# EAGLE library part XCV2000E_PQ208 (library xilinx-xcv)
xcv2000e_pq208 edit this description Auto generated by make-symbol-device-package-bsdl.ulp Rev. 26 Source: xcv2000e_pq208.bsd
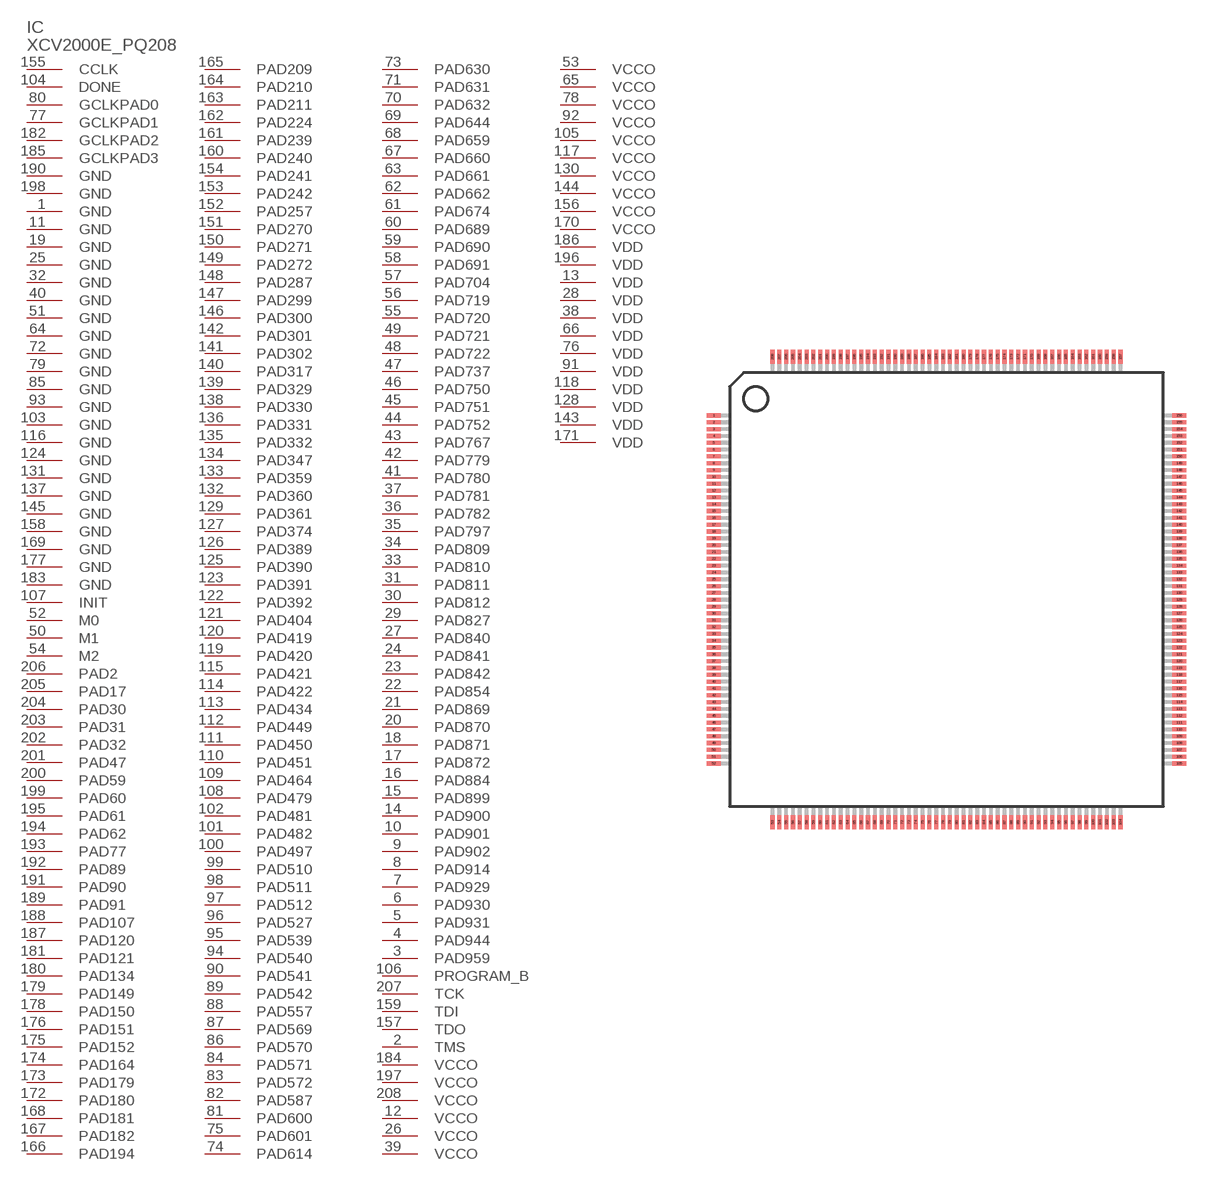
[diagram p53: symbol with the pads of PQ208; footprint PQ208]

Designator prefix IC

## XCV2000E_PQ208  [PQ208]
1  GND  pwr
2  TMS  in
3  PAD959
4  PAD944
5  PAD931
6  PAD930
7  PAD929
8  PAD914
9  PAD902
10  PAD901
11  GND  pwr
12  VCCO  pwr
13  VDD  pwr
14  PAD900
15  PAD899
16  PAD884
17  PAD872
18  PAD871
19  GND  pwr
20  PAD870
21  PAD869
22  PAD854
23  PAD842
24  PAD841
25  GND  pwr
26  VCCO  pwr
27  PAD840
28  VDD  pwr
29  PAD827
30  PAD812
31  PAD811
32  GND  pwr
33  PAD810
34  PAD809
35  PAD797
36  PAD782
37  PAD781
38  VDD  pwr
39  VCCO  pwr
40  GND  pwr
41  PAD780
42  PAD779
43  PAD767
44  PAD752
45  PAD751
46  PAD750
47  PAD737
48  PAD722
49  PAD721
50  M1  in
51  GND  pwr
52  M0  in
53  VCCO  pwr
54  M2  in
55  PAD720
56  PAD719
57  PAD704
58  PAD691
59  PAD690
60  PAD689
61  PAD674
62  PAD662
63  PAD661
64  GND  pwr
65  VCCO  pwr
66  VDD  pwr
67  PAD660
68  PAD659
69  PAD644
70  PAD632
71  PAD631
72  GND  pwr
73  PAD630
74  PAD614
75  PAD601
76  VDD  pwr
77  GCLKPAD1  in
78  VCCO  pwr
79  GND  pwr
80  GCLKPAD0  in
81  PAD600
82  PAD587
83  PAD572
84  PAD571
85  GND  pwr
86  PAD570
87  PAD569
88  PAD557
89  PAD542
90  PAD541
91  VDD  pwr
92  VCCO  pwr
93  GND  pwr
94  PAD540
95  PAD539
96  PAD527
97  PAD512
98  PAD511
99  PAD510
100  PAD497
101  PAD482
102  PAD481
103  GND  pwr
104  DONE
105  VCCO  pwr
106  PROGRAM_B  in
107  INIT
108  PAD479
109  PAD464
110  PAD451
111  PAD450
112  PAD449
113  PAD434
114  PAD422
115  PAD421
116  GND  pwr
117  VCCO  pwr
118  VDD  pwr
119  PAD420
120  PAD419
121  PAD404
122  PAD392
123  PAD391
124  GND  pwr
125  PAD390
126  PAD389
127  PAD374
128  VDD  pwr
129  PAD361
130  VCCO  pwr
131  GND  pwr
132  PAD360
133  PAD359
134  PAD347
135  PAD332
136  PAD331
137  GND  pwr
138  PAD330
139  PAD329
140  PAD317
141  PAD302
142  PAD301
143  VDD  pwr
144  VCCO  pwr
145  GND  pwr
146  PAD300
147  PAD299
148  PAD287
149  PAD272
150  PAD271
151  PAD270
152  PAD257
153  PAD242
154  PAD241
155  CCLK
156  VCCO  pwr
157  TDO  out
158  GND  pwr
159  TDI  in
160  PAD240
161  PAD239
162  PAD224
163  PAD211
164  PAD210
165  PAD209
166  PAD194
167  PAD182
168  PAD181
169  GND  pwr
170  VCCO  pwr
171  VDD  pwr
172  PAD180
173  PAD179
174  PAD164
175  PAD152
176  PAD151
177  GND  pwr
178  PAD150
179  PAD149
180  PAD134
181  PAD121
182  GCLKPAD2  in
183  GND  pwr
184  VCCO  pwr
185  GCLKPAD3  in
186  VDD  pwr
187  PAD120
188  PAD107
189  PAD91
190  GND  pwr
191  PAD90
192  PAD89
193  PAD77
194  PAD62
195  PAD61
196  VDD  pwr
197  VCCO  pwr
198  GND  pwr
199  PAD60
200  PAD59
201  PAD47
202  PAD32
203  PAD31
204  PAD30
205  PAD17
206  PAD2
207  TCK  in
208  VCCO  pwr

## Footprint PQ208 (pad centres in mm)
PQ208 Auto generated by make-symbol-device-package-bsdl.ulp Rev. 26
smd 1 x 0.3: 1 -17.05,12.75; 2 -17.05,12.25; 3 -17.05,11.75; 4 -17.05,11.25; 5 -17.05,10.75; 6 -17.05,10.25; 7 -17.05,9.75; 8 -17.05,9.25; 9 -17.05,8.75; 10 -17.05,8.25; 11 -17.05,7.75; 12 -17.05,7.25; 13 -17.05,6.75; 14 -17.05,6.25; 15 -17.05,5.75; 16 -17.05,5.25; 17 -17.05,4.75; 18 -17.05,4.25; 19 -17.05,3.75; 20 -17.05,3.25; 21 -17.05,2.75; 22 -17.05,2.25; 23 -17.05,1.75; 24 -17.05,1.25; 25 -17.05,0.75; 26 -17.05,0.25; 27 -17.05,-0.25; 28 -17.05,-0.75; 29 -17.05,-1.25; 30 -17.05,-1.75; 31 -17.05,-2.25; 32 -17.05,-2.75; 33 -17.05,-3.25; 34 -17.05,-3.75; 35 -17.05,-4.25; 36 -17.05,-4.75; 37 -17.05,-5.25; 38 -17.05,-5.75; 39 -17.05,-6.25; 40 -17.05,-6.75; 41 -17.05,-7.25; 42 -17.05,-7.75; 43 -17.05,-8.25; 44 -17.05,-8.75; 45 -17.05,-9.25; 46 -17.05,-9.75; 47 -17.05,-10.25; 48 -17.05,-10.75; 49 -17.05,-11.25; 50 -17.05,-11.75; 51 -17.05,-12.25; 52 -17.05,-12.75; 105 17.05,-12.75; 106 17.05,-12.25; 107 17.05,-11.75; 108 17.05,-11.25; 109 17.05,-10.75; 110 17.05,-10.25; 111 17.05,-9.75; 112 17.05,-9.25; 113 17.05,-8.75; 114 17.05,-8.25; 115 17.05,-7.75; 116 17.05,-7.25; 117 17.05,-6.75; 118 17.05,-6.25; 119 17.05,-5.75; 120 17.05,-5.25; 121 17.05,-4.75; 122 17.05,-4.25; 123 17.05,-3.75; 124 17.05,-3.25; 125 17.05,-2.75; 126 17.05,-2.25; 127 17.05,-1.75; 128 17.05,-1.25; 129 17.05,-0.75; 130 17.05,-0.25; 131 17.05,0.25; 132 17.05,0.75; 133 17.05,1.25; 134 17.05,1.75; 135 17.05,2.25; 136 17.05,2.75; 137 17.05,3.25; 138 17.05,3.75; 139 17.05,4.25; 140 17.05,4.75; 141 17.05,5.25; 142 17.05,5.75; 143 17.05,6.25; 144 17.05,6.75; 145 17.05,7.25; 146 17.05,7.75; 147 17.05,8.25; 148 17.05,8.75; 149 17.05,9.25; 150 17.05,9.75; 151 17.05,10.25; 152 17.05,10.75; 153 17.05,11.25; 154 17.05,11.75; 155 17.05,12.25; 156 17.05,12.75
smd 0.3 x 1: 53 -12.75,-17.05; 54 -12.25,-17.05; 55 -11.75,-17.05; 56 -11.25,-17.05; 57 -10.75,-17.05; 58 -10.25,-17.05; 59 -9.75,-17.05; 60 -9.25,-17.05; 61 -8.75,-17.05; 62 -8.25,-17.05; 63 -7.75,-17.05; 64 -7.25,-17.05; 65 -6.75,-17.05; 66 -6.25,-17.05; 67 -5.75,-17.05; 68 -5.25,-17.05; 69 -4.75,-17.05; 70 -4.25,-17.05; 71 -3.75,-17.05; 72 -3.25,-17.05; 73 -2.75,-17.05; 74 -2.25,-17.05; 75 -1.75,-17.05; 76 -1.25,-17.05; 77 -0.75,-17.05; 78 -0.25,-17.05; 79 0.25,-17.05; 80 0.75,-17.05; 81 1.25,-17.05; 82 1.75,-17.05; 83 2.25,-17.05; 84 2.75,-17.05; 85 3.25,-17.05; 86 3.75,-17.05; 87 4.25,-17.05; 88 4.75,-17.05; 89 5.25,-17.05; 90 5.75,-17.05; 91 6.25,-17.05; 92 6.75,-17.05; 93 7.25,-17.05; 94 7.75,-17.05; 95 8.25,-17.05; 96 8.75,-17.05; 97 9.25,-17.05; 98 9.75,-17.05; 99 10.25,-17.05; 100 10.75,-17.05; 101 11.25,-17.05; 102 11.75,-17.05; 103 12.25,-17.05; 104 12.75,-17.05; 157 12.75,17.05; 158 12.25,17.05; 159 11.75,17.05; 160 11.25,17.05; 161 10.75,17.05; 162 10.25,17.05; 163 9.75,17.05; 164 9.25,17.05; 165 8.75,17.05; 166 8.25,17.05; 167 7.75,17.05; 168 7.25,17.05; 169 6.75,17.05; 170 6.25,17.05; 171 5.75,17.05; 172 5.25,17.05; 173 4.75,17.05; 174 4.25,17.05; 175 3.75,17.05; 176 3.25,17.05; 177 2.75,17.05; 178 2.25,17.05; 179 1.75,17.05; 180 1.25,17.05; 181 0.75,17.05; 182 0.25,17.05; 183 -0.25,17.05; 184 -0.75,17.05; 185 -1.25,17.05; 186 -1.75,17.05; 187 -2.25,17.05; 188 -2.75,17.05; 189 -3.25,17.05; 190 -3.75,17.05; 191 -4.25,17.05; 192 -4.75,17.05; 193 -5.25,17.05; 194 -5.75,17.05; 195 -6.25,17.05; 196 -6.75,17.05; 197 -7.25,17.05; 198 -7.75,17.05; 199 -8.25,17.05; 200 -8.75,17.05; 201 -9.25,17.05; 202 -9.75,17.05; 203 -10.25,17.05; 204 -10.75,17.05; 205 -11.25,17.05; 206 -11.75,17.05; 207 -12.25,17.05; 208 -12.75,17.05